# Altium schematic symbol library blink_routed.SchLib: 3 symbols
Pins are listed as number, name and electrical type; pins without a type are passive.

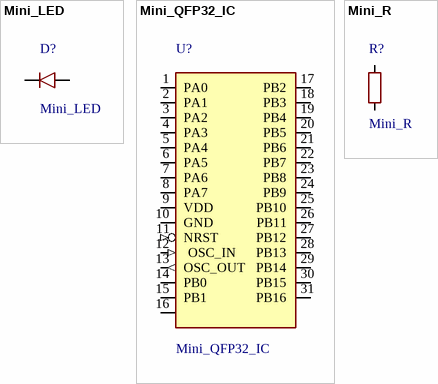
[diagram p0: symbols Mini_LED to Mini_R]

## Mini_LED
designator D?
Mini light emitting diode. Fenolite test symbol
footprint Mini_LED_THT_3mm
pins: 1 K, 2 A

## Mini_QFP32_IC
designator U?
Mini 32-pin IC. Fenolite test symbol
footprint Mini_QFP-32_7x7mm_P0.8mm
pins: 1 PA0 (io), 2 PA1 (io), 3 PA2 (io), 4 PA3 (io), 5 PA4 (io), 6 PA5 (io), 7 PA6 (io), 8 PA7 (io), 9 VDD (power), 10 GND (power), 11 NRST (in), 12 OSC_IN (in), 13 OSC_OUT (out), 14 PB0 (io), 15 PB1 (hiz), 16, 17 PB2 (io), 18 PB3 (io), 19 PB4 (io), 20 PB5 (io), 21 PB6 (io), 22 PB7 (io), 23 PB8 (io), 24 PB9 (io), 25 PB10 (io), 26 PB11 (io), 27 PB12 (io), 28 PB13 (io), 29 PB14 (io), 30 PB15 (io), 31 PB16 (io), 32 EP hidden

## Mini_R
designator R?
Mini resistor. Fenolite test symbol
footprint Mini_R_0603
pins: 1, 2